# EAGLE library part XC3S700AFG484 (library xilinx_spartan3_virtex4_and_5)
Xilinx FPGA
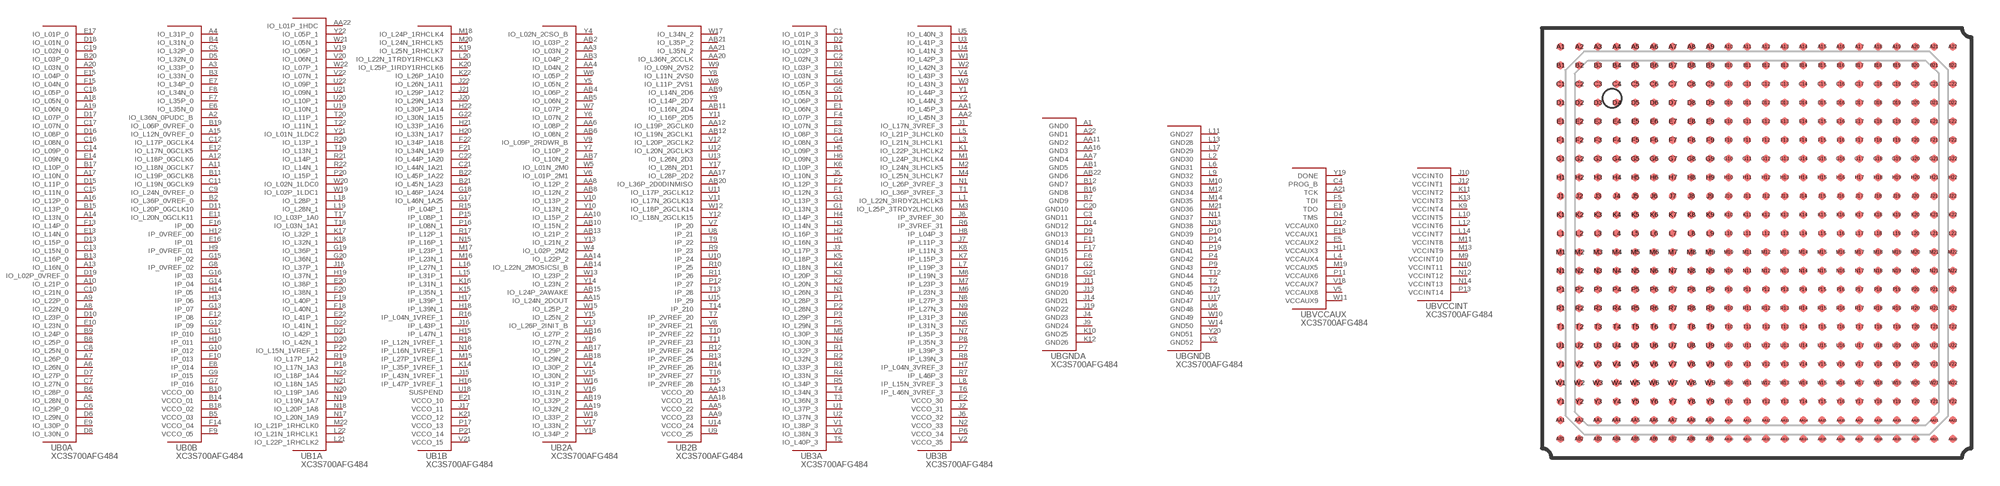
[diagram p36: symbol with the pads of FG484; footprint FG484]

Designator prefix U; gates B0A=XC3S700AFG484_0A B0B=XC3S700AFG484_0B B1A=XC3S700AFG484_1A B1B=XC3S700AFG484_1B B2A=XC3S700AFG484_2A B2B=XC3S700AFG484_2B B3A=XC3S700AFG484_3A B3B=XC3S700AFG484_3B BGNDA=XC3S700AFG484_GNDA BGNDB=XC3S700AFG484_GNDB BVCCAUX=XC3S700AFG484_VCCAUX BVCCINT=XC3S700AFG484_VCCINT

## XC3S700AFG484  [FG484]
A1  BGNDA:GND0  pas
A2  B0B:IO_L36N_0PUDC_B
A3  B0B:IO_L33P_0
A4  B0B:IO_L31P_0
A5  B0A:IO_L28N_0
A6  B0A:IO_L26N_0
A7  B0A:IO_L26P_0
A8  B0A:IO_L22N_0
A9  B0A:IO_L22P_0
A10  B0A:IO_L21P_0
A11  B0B:IO_L18N_0GCLK7
A12  B0B:IO_L18P_0GCLK6
A13  B0A:IO_L16N_0
A14  B0A:IO_L13N_0
A15  B0B:IO_L12N_0VREF_0
A16  B0A:IO_L12P_0
A17  B0A:IO_L10N_0
A18  B0A:IO_L05N_0
A19  B0A:IO_L06N_0
A20  B0A:IO_L03N_0
A21  BVCCAUX:TCK
A22  BGNDA:GND1  pas
AA1  B3B:IO_L45P_3
AA2  B3B:IO_L45N_3
AA3  B2A:IO_L03N_2
AA4  B2A:IO_L04N_2
AA5  B2B:VCCO_22  pas
AA6  B2A:IO_L08P_2
AA7  BGNDA:GND4  pas
AA8  B2A:IO_L12P_2
AA9  B2B:VCCO_23  pas
AA10  B2A:IO_L15P_2
AA11  BGNDA:GND2  pas
AA12  B2B:IO_L19P_2GCLK0
AA13  B2B:VCCO_20  pas
AA14  B2A:IO_L22P_2
AA15  B2A:IO_L24N_2DOUT
AA16  BGNDA:GND3  pas
AA17  B2B:IO_L28P_2D2
AA18  B2B:VCCO_21  pas
AA19  B2A:IO_L32N_2
AA20  B2B:IO_L36N_2CCLK
AA21  B2B:IO_L35N_2
AA22  B1A:IO_L01P_1HDC
AB1  BGNDA:GND5  pas
AB2  B2A:IO_L03P_2
AB3  B2A:IO_L04P_2
AB4  B2A:IO_L06P_2
AB5  B2A:IO_L06N_2
AB6  B2A:IO_L08N_2
AB7  B2A:IO_L10N_2
AB8  B2A:IO_L12N_2
AB9  B2B:IO_L14N_2D6
AB10  B2A:IO_L15N_2
AB11  B2B:IO_L16N_2D4
AB12  B2B:IO_L19N_2GCLK1
AB13  B2A:IO_L21P_2
AB14  B2A:IO_L22N_2MOSICSI_B
AB15  B2A:IO_L24P_2AWAKE
AB16  B2A:IO_L27P_2
AB17  B2A:IO_L29P_2
AB18  B2A:IO_L29N_2
AB19  B2A:IO_L32P_2
AB20  B2B:IO_L36P_2D0DINMISO
AB21  B2B:IO_L35P_2
AB22  BGNDA:GND6  pas
B1  B3A:IO_L02P_3
B2  B0B:IO_L36P_0VREF_0
B3  B0B:IO_L33N_0
B4  B0B:IO_L31N_0
B5  B0B:VCCO_03  pas
B6  B0A:IO_L28P_0
B7  BGNDA:GND9  pas
B8  B0A:IO_L25P_0
B9  B0A:IO_L24P_0
B10  B0B:VCCO_00  pas
B11  B0B:IO_L19P_0GCLK8
B12  BGNDA:GND7  pas
B13  B0A:IO_L16P_0
B14  B0B:VCCO_01  pas
B15  B0A:IO_L13P_0
B16  BGNDA:GND8  pas
B17  B0A:IO_L10P_0
B18  B0B:VCCO_02  pas
B19  B0B:IO_L06P_0VREF_0
B20  B0A:IO_L03P_0
B21  B1B:IO_L45N_1A23
B22  B1B:IO_L45P_1A22
C1  B3A:IO_L01P_3
C2  B3A:IO_L02N_3
C3  BGNDA:GND11  pas
C4  BVCCAUX:PROG_B
C5  B0B:IO_L32P_0
C6  B0A:IO_L29P_0
C7  B0A:IO_L27N_0
C8  B0A:IO_L25N_0
C9  B0B:IO_L24N_0VREF_0
C10  B0A:IO_L21N_0
C11  B0B:IO_L19N_0GCLK9
C12  B0B:IO_L17P_0GCLK4
C13  B0A:IO_L15N_0
C14  B0A:IO_L09P_0
C15  B0A:IO_L11N_0
C16  B0A:IO_L08N_0
C17  B0A:IO_L07N_0
C18  B0A:IO_L05P_0
C19  B0A:IO_L02N_0
C20  BGNDA:GND10  pas
C21  B1B:IO_L44N_1A21
C22  B1B:IO_L44P_1A20
D1  B3A:IO_L06P_3
D2  B3A:IO_L01N_3
D3  B3A:IO_L03P_3
D4  BVCCAUX:TMS
D5  B0B:IO_L32N_0
D6  B0A:IO_L29N_0
D7  B0A:IO_L27P_0
D8  B0A:IO_L30N_0
D9  BGNDA:GND13  pas
D10  B0A:IO_L23P_0
D11  B0B:IO_L20P_0GCLK10
D12  BVCCAUX:VCCAUX0  pas
D13  B0A:IO_L15P_0
D14  BGNDA:GND12  pas
D15  B0A:IO_L11P_0
D16  B0A:IO_L08P_0
D17  B0A:IO_L07P_0
D18  B0A:IO_L01N_0
D19  B0A:IO_L02P_0VREF_0
D20  B1A:IO_L42N_1
D21  B1A:IO_L42P_1
D22  B1A:IO_L41N_1
E1  B3A:IO_L06N_3
E2  B3B:VCCO_30  pas
E3  B3A:IO_L07N_3
E4  B3A:IO_L03N_3
E5  BVCCAUX:VCCAUX2  pas
E6  B0B:IO_L35N_0
E7  B0B:IO_L34P_0
E8  B0B:IP_014
E9  B0A:IO_L30P_0
E10  B0A:IO_L23N_0
E11  B0B:IO_L20N_0GCLK11
E12  B0B:IO_L17N_0GCLK5
E13  B0A:IO_L14N_0
E14  B0A:IO_L09N_0
E15  B0A:IO_L04P_0
E16  B0B:IP_01
E17  B0A:IO_L01P_0
E18  BVCCAUX:VCCAUX1  pas
E19  BVCCAUX:TDO
E20  B1A:IO_L38P_1
E21  B1B:VCCO_10  pas
E22  B1A:IO_L41P_1
F1  B3A:IO_L12N_3
F2  B3A:IO_L12P_3
F3  B3A:IO_L08P_3
F4  B3A:IO_L07P_3
F5  BVCCAUX:TDI
F6  BGNDA:GND16  pas
F7  B0B:IO_L35P_0
F8  B0B:IO_L34N_0
F9  B0B:VCCO_05  pas
F10  B0B:IP_013
F11  BGNDA:GND14  pas
F12  B0B:IP_08
F13  B0A:IO_L14P_0
F14  B0B:VCCO_04  pas
F15  B0A:IO_L04N_0
F16  B0B:IP_00
F17  BGNDA:GND15  pas
F18  B1A:IO_L40N_1
F19  B1A:IO_L40P_1
F20  B1A:IO_L38N_1
F21  B1B:IO_L34N_1A19
F22  B1B:IO_L34P_1A18
G1  B3A:IO_L13N_3
G2  BGNDA:GND17  pas
G3  B3A:IO_L13P_3
G4  B3A:IO_L08N_3
G5  B3A:IO_L05N_3
G6  B3A:IO_L05P_3
G7  B0B:IP_016
G8  B0B:IP_0VREF_02
G9  B0B:IP_015
G10  B0B:IP_012
G11  B0B:IP_010
G12  B0B:IP_09
G13  B0B:IP_07
G14  B0B:IP_04
G15  B0B:IP_02
G16  B0B:IP_03
G17  B1B:IO_L46N_1A25
G18  B1B:IO_L46P_1A24
G19  B1A:IO_L36P_1
G20  B1A:IO_L36N_1
G21  BGNDA:GND18  pas
G22  B1B:IO_L30N_1A15
H1  B3A:IO_L16N_3
H2  B3A:IO_L16P_3
H3  B3A:IO_L14N_3
H4  B3A:IO_L14P_3
H5  B3A:IO_L09P_3
H6  B3A:IO_L09N_3
H7  B3B:IP_L04N_3VREF_3
H8  B3B:IP_L04P_3
H9  B0B:IP_0VREF_01
H10  B0B:IP_011
H11  BVCCAUX:VCCAUX3  pas
H12  B0B:IP_0VREF_00
H13  B0B:IP_06
H14  B0B:IP_05
H15  B1B:IP_L47N_1
H16  B1B:IP_L47P_1VREF_1
H17  B1B:IP_L39P_1
H18  B1B:IP_L39N_1
H19  B1A:IO_L37N_1
H20  B1B:IO_L33N_1A17
H21  B1B:IO_L33P_1A16
H22  B1B:IO_L30P_1A14
J1  B3B:IO_L17N_3VREF_3
J2  B3B:VCCO_31  pas
J3  B3A:IO_L17P_3
J4  BGNDA:GND23  pas
J5  B3A:IO_L10N_3
J6  B3B:VCCO_32  pas
J7  B3B:IP_L11P_3
J8  B3B:IP_3VREF_30
J9  BGNDA:GND24  pas
J10  BVCCINT:VCCINT0  pas
J11  BGNDA:GND19  pas
J12  BVCCINT:VCCINT1  pas
J13  BGNDA:GND20  pas
J14  BGNDA:GND21  pas
J15  B1B:IP_L43N_1VREF_1
J16  B1B:IP_L43P_1
J17  B1B:VCCO_11  pas
J18  B1A:IO_L37P_1
J19  BGNDA:GND22  pas
J20  B1B:IO_L29N_1A13
J21  B1B:IO_L29P_1A12
J22  B1B:IO_L26N_1A11
K1  B3B:IO_L22P_3LHCLK2
K2  B3A:IO_L20N_3
K3  B3A:IO_L20P_3
K4  B3A:IO_L18N_3
K5  B3A:IO_L18P_3
K6  B3A:IO_L10P_3
K7  B3B:IP_L15P_3
K8  B3B:IP_L11N_3
K9  BVCCINT:VCCINT4  pas
K10  BGNDA:GND25  pas
K11  BVCCINT:VCCINT2  pas
K12  BGNDA:GND26  pas
K13  BVCCINT:VCCINT3  pas
K14  B1B:IP_L35P_1VREF_1
K15  B1B:IP_L35N_1
K16  B1B:IP_L31N_1
K17  B1A:IO_L32P_1
K18  B1A:IO_L32N_1
K19  B1B:IO_L25N_1RHCLK7
K20  B1B:IO_L25P_1IRDY1RHCLK6
K21  B1B:VCCO_12  pas
K22  B1B:IO_L26P_1A10
L1  B3B:IO_L22N_3IRDY2LHCLK3
L2  BGNDB:GND30  pas
L3  B3B:IO_L21N_3LHCLK1
L4  BVCCAUX:VCCAUX4  pas
L5  B3B:IO_L21P_3LHCLK0
L6  BGNDB:GND31  pas
L7  B3B:IP_L19P_3
L8  B3B:IP_L15N_3VREF_3
L9  BGNDB:GND32  pas
L10  BVCCINT:VCCINT5  pas
L11  BGNDB:GND27  pas
L12  BVCCINT:VCCINT6  pas
L13  BGNDB:GND28  pas
L14  BVCCINT:VCCINT7  pas
L15  B1B:IP_L31P_1
L16  B1B:IP_L27N_1
L17  BGNDB:GND29  pas
L18  B1A:IO_L28P_1
L19  B1A:IO_L28N_1
L20  B1B:IO_L22N_1TRDY1RHCLK3
L21  B1A:IO_L22P_1RHCLK2
L22  B1A:IO_L21N_1RHCLK1
M1  B3B:IO_L24P_3LHCLK4
M2  B3B:IO_L24N_3LHCLK5
M3  B3B:IO_L25P_3TRDY2LHCLK6
M4  B3B:IO_L25N_3LHCLK7
M5  B3A:IO_L30P_3
M6  B3B:IP_L23N_3
M7  B3B:IP_L23P_3
M8  B3B:IP_L19N_3
M9  BVCCINT:VCCINT10  pas
M10  BGNDB:GND33  pas
M11  BVCCINT:VCCINT8  pas
M12  BGNDB:GND34  pas
M13  BVCCINT:VCCINT9  pas
M14  BGNDB:GND35  pas
M15  B1B:IP_L27P_1VREF_1
M16  B1B:IP_L23N_1
M17  B1B:IP_L23P_1
M18  B1B:IO_L24P_1RHCLK4
M19  BVCCAUX:VCCAUX5  pas
M20  B1B:IO_L24N_1RHCLK5
M21  BGNDB:GND36  pas
M22  B1A:IO_L21P_1RHCLK0
N1  B3B:IO_L26P_3VREF_3
N2  B3B:VCCO_33  pas
N3  B3A:IO_L26N_3
N4  B3A:IO_L30N_3
N5  B3B:IP_L31N_3
N6  B3B:IP_L31P_3
N7  B3B:IP_L35P_3
N8  B3B:IP_L27P_3
N9  B3B:IP_L27N_3
N10  BVCCINT:VCCINT11  pas
N11  BGNDB:GND37  pas
N12  BVCCINT:VCCINT12  pas
N13  BGNDB:GND38  pas
N14  BVCCINT:VCCINT13  pas
N15  B1B:IP_L16P_1
N16  B1B:IP_L16N_1VREF_1
N17  B1A:IO_L20N_1A9
N18  B1A:IO_L20P_1A8
N19  B1A:IO_L19N_1A7
N20  B1A:IO_L19P_1A6
N21  B1A:IO_L18N_1A5
N22  B1A:IO_L18P_1A4
P1  B3A:IO_L28P_3
P2  B3A:IO_L28N_3
P3  B3A:IO_L29P_3
P4  BGNDB:GND42  pas
P5  B3A:IO_L29N_3
P6  B3B:VCCO_34  pas
P7  B3B:IP_L39P_3
P8  B3B:IP_L35N_3
P9  BGNDB:GND43  pas
P10  BGNDB:GND39  pas
P11  BVCCAUX:VCCAUX6  pas
P12  B2B:IP_27
P13  BVCCINT:VCCINT14  pas
P14  BGNDB:GND40  pas
P15  B1B:IP_L08P_1
P16  B1B:IP_L08N_1
P17  B1B:VCCO_13  pas
P18  B1A:IO_L17N_1A3
P19  BGNDB:GND41  pas
P20  B1A:IO_L15P_1
P21  B1B:VCCO_14  pas
P22  B1A:IO_L15N_1VREF_1
R1  B3A:IO_L32P_3
R2  B3A:IO_L32N_3
R3  B3A:IO_L33P_3
R4  B3A:IO_L33N_3
R5  B3A:IO_L34P_3
R6  B3B:IP_3VREF_31
R7  B3B:IP_L46P_3
R8  B3B:IP_L39N_3
R9  B2B:IP_23
R10  B2B:IP_25
R11  B2B:IP_26
R12  B2B:IP_2VREF_24
R13  B2B:IP_2VREF_25
R14  B2B:IP_2VREF_26
R15  B1B:IP_L04P_1
R16  B1B:IP_L04N_1VREF_1
R17  B1B:IP_L12P_1
R18  B1B:IP_L12N_1VREF_1
R19  B1A:IO_L17P_1A2
R20  B1A:IO_L13P_1
R21  B1A:IO_L14P_1
R22  B1A:IO_L14N_1
T1  B3B:IO_L36P_3VREF_3
T2  BGNDB:GND45  pas
T3  B3A:IO_L36N_3
T4  B3A:IO_L34N_3
T5  B3A:IO_L40P_3
T6  B3B:IP_L46N_3VREF_3
T7  B2B:IP_2VREF_20
T9  B2B:IP_22
T10  B2B:IP_2VREF_22
T11  B2B:IP_2VREF_23
T12  BGNDB:GND44  pas
T13  B2B:IP_28
T14  B2B:IP_210
T15  B2B:IP_2VREF_28
T16  B2B:IP_2VREF_27
T17  B1A:IO_L03P_1A0
T18  B1A:IO_L03N_1A1
T19  B1A:IO_L13N_1
T20  B1A:IO_L11P_1
T21  BGNDB:GND46  pas
T22  B1A:IO_L11N_1
U1  B3A:IO_L37P_3
U2  B3A:IO_L37N_3
U3  B3B:IO_L41P_3
U4  B3B:IO_L41N_3
U5  B3B:IO_L40N_3
U6  BGNDB:GND48  pas
U8  B2B:IP_21
U9  B2B:VCCO_25  pas
U10  B2B:IP_24
U11  B2B:IO_L17P_2GCLK12
U12  B2B:IO_L20N_2GCLK3
U13  B2B:IO_L26N_2D3
U14  B2B:VCCO_24  pas
U15  B2B:IP_29
U17  BGNDB:GND47  pas
U18  B1B:SUSPEND
U19  B1A:IO_L10N_1
U20  B1A:IO_L10P_1
U21  B1A:IO_L09N_1
U22  B1A:IO_L09P_1
V1  B3A:IO_L38P_3
V2  B3B:VCCO_35  pas
V3  B3A:IO_L38N_3
V4  B3B:IO_L43P_3
V5  BVCCAUX:VCCAUX8  pas
V6  B2A:IO_L01P_2M1
V7  B2B:IP_20
V8  B2B:IP_2VREF_21
V9  B2A:IO_L09P_2RDWR_B
V10  B2A:IO_L13P_2
V11  B2B:IO_L17N_2GCLK13
V12  B2B:IO_L20P_2GCLK2
V13  B2A:IO_L26P_2INIT_B
V14  B2A:IO_L30P_2
V15  B2A:IO_L30N_2
V16  B2A:IO_L31N_2
V17  B2A:IO_L33N_2
V18  BVCCAUX:VCCAUX7  pas
V19  B1A:IO_L06P_1
V20  B1A:IO_L06N_1
V21  B1B:VCCO_15  pas
V22  B1A:IO_L07N_1
W1  B3B:IO_L42P_3
W2  B3B:IO_L42N_3
W3  B3B:IO_L43N_3
W4  B2A:IO_L02P_2M2
W5  B2A:IO_L01N_2M0
W6  B2A:IO_L05P_2
W7  B2A:IO_L07P_2
W8  B2B:IO_L11P_2VS1
W9  B2B:IO_L09N_2VS2
W10  BGNDB:GND49  pas
W11  BVCCAUX:VCCAUX9  pas
W12  B2B:IO_L18P_2GCLK14
W13  B2A:IO_L23P_2
W14  BGNDB:GND50  pas
W15  B2A:IO_L25P_2
W16  B2A:IO_L31P_2
W17  B2B:IO_L34N_2
W18  B2A:IO_L33P_2
W19  B1A:IO_L02P_1LDC1
W20  B1A:IO_L02N_1LDC0
W21  B1A:IO_L05N_1
W22  B1A:IO_L07P_1
Y1  B3B:IO_L44P_3
Y2  B3B:IO_L44N_3
Y3  BGNDB:GND52  pas
Y4  B2A:IO_L02N_2CSO_B
Y5  B2A:IO_L05N_2
Y6  B2A:IO_L07N_2
Y7  B2A:IO_L10P_2
Y8  B2B:IO_L11N_2VS0
Y9  B2B:IO_L14P_2D7
Y10  B2A:IO_L13N_2
Y11  B2B:IO_L16P_2D5
Y12  B2B:IO_L18N_2GCLK15
Y13  B2A:IO_L21N_2
Y14  B2A:IO_L23N_2
Y15  B2A:IO_L25N_2
Y16  B2A:IO_L27N_2
Y17  B2B:IO_L28N_2D1
Y18  B2A:IO_L34P_2
Y19  BVCCAUX:DONE
Y20  BGNDB:GND51  pas
Y21  B1A:IO_L01N_1LDC2
Y22  B1A:IO_L05P_1

## Footprint FG484 (pad centres in mm)
smd 0.4 x 0.4: A1 -10.5,10.5; A2 -9.5,10.5; A3 -8.5,10.5; A4 -7.5,10.5; A5 -6.5,10.5; A6 -5.5,10.5; A7 -4.5,10.5; A8 -3.5,10.5; A9 -2.5,10.5; A10 -1.5,10.5; A11 -0.5,10.5; A12 0.5,10.5; A13 1.5,10.5; A14 2.5,10.5; A15 3.5,10.5; A16 4.5,10.5; A17 5.5,10.5; A18 6.5,10.5; A19 7.5,10.5; A20 8.5,10.5; A21 9.5,10.5; A22 10.5,10.5; AA1 -10.5,-9.5; AA2 -9.5,-9.5; AA3 -8.5,-9.5; AA4 -7.5,-9.5; AA5 -6.5,-9.5; AA6 -5.5,-9.5; AA7 -4.5,-9.5; AA8 -3.5,-9.5; AA9 -2.5,-9.5; AA10 -1.5,-9.5; AA11 -0.5,-9.5; AA12 0.5,-9.5; AA13 1.5,-9.5; AA14 2.5,-9.5; AA15 3.5,-9.5; AA16 4.5,-9.5; AA17 5.5,-9.5; AA18 6.5,-9.5; AA19 7.5,-9.5; AA20 8.5,-9.5; AA21 9.5,-9.5; AA22 10.5,-9.5; AB1 -10.5,-10.5; AB2 -9.5,-10.5; AB3 -8.5,-10.5; AB4 -7.5,-10.5; AB5 -6.5,-10.5; AB6 -5.5,-10.5; AB7 -4.5,-10.5; AB8 -3.5,-10.5; AB9 -2.5,-10.5; AB10 -1.5,-10.5; AB11 -0.5,-10.5; AB12 0.5,-10.5; AB13 1.5,-10.5; AB14 2.5,-10.5; AB15 3.5,-10.5; AB16 4.5,-10.5; AB17 5.5,-10.5; AB18 6.5,-10.5; AB19 7.5,-10.5; AB20 8.5,-10.5; AB21 9.5,-10.5; AB22 10.5,-10.5; B1 -10.5,9.5; B2 -9.5,9.5; B3 -8.5,9.5; B4 -7.5,9.5; B5 -6.5,9.5; B6 -5.5,9.5; B7 -4.5,9.5; B8 -3.5,9.5; B9 -2.5,9.5; B10 -1.5,9.5; B11 -0.5,9.5; B12 0.5,9.5; B13 1.5,9.5; B14 2.5,9.5; B15 3.5,9.5; B16 4.5,9.5; B17 5.5,9.5; B18 6.5,9.5; B19 7.5,9.5; B20 8.5,9.5; B21 9.5,9.5; B22 10.5,9.5; C1 -10.5,8.5; C2 -9.5,8.5; C3 -8.5,8.5; C4 -7.5,8.5; C5 -6.5,8.5; C6 -5.5,8.5; C7 -4.5,8.5; C8 -3.5,8.5; C9 -2.5,8.5; C10 -1.5,8.5; C11 -0.5,8.5; C12 0.5,8.5; C13 1.5,8.5; C14 2.5,8.5; C15 3.5,8.5; C16 4.5,8.5; C17 5.5,8.5; C18 6.5,8.5; C19 7.5,8.5; C20 8.5,8.5; C21 9.5,8.5; C22 10.5,8.5; D1 -10.5,7.5; D2 -9.5,7.5; D3 -8.5,7.5; D4 -7.5,7.5; D5 -6.5,7.5; D6 -5.5,7.5; D7 -4.5,7.5; D8 -3.5,7.5; D9 -2.5,7.5; D10 -1.5,7.5; D11 -0.5,7.5; D12 0.5,7.5; D13 1.5,7.5; D14 2.5,7.5; D15 3.5,7.5; D16 4.5,7.5; D17 5.5,7.5; D18 6.5,7.5; D19 7.5,7.5; D20 8.5,7.5; D21 9.5,7.5; D22 10.5,7.5; E1 -10.5,6.5; E2 -9.5,6.5; E3 -8.5,6.5; E4 -7.5,6.5; E5 -6.5,6.5; E6 -5.5,6.5; E7 -4.5,6.5; E8 -3.5,6.5; E9 -2.5,6.5; E10 -1.5,6.5; E11 -0.5,6.5; E12 0.5,6.5; E13 1.5,6.5; E14 2.5,6.5; E15 3.5,6.5; E16 4.5,6.5; E17 5.5,6.5; E18 6.5,6.5; E19 7.5,6.5; E20 8.5,6.5; E21 9.5,6.5; E22 10.5,6.5; F1 -10.5,5.5; F2 -9.5,5.5; F3 -8.5,5.5; F4 -7.5,5.5; F5 -6.5,5.5; F6 -5.5,5.5; F7 -4.5,5.5; F8 -3.5,5.5; F9 -2.5,5.5; F10 -1.5,5.5; F11 -0.5,5.5; F12 0.5,5.5; F13 1.5,5.5; F14 2.5,5.5; F15 3.5,5.5; F16 4.5,5.5; F17 5.5,5.5; F18 6.5,5.5; F19 7.5,5.5; F20 8.5,5.5; F21 9.5,5.5; F22 10.5,5.5; G1 -10.5,4.5; G2 -9.5,4.5; G3 -8.5,4.5; G4 -7.5,4.5; G5 -6.5,4.5; G6 -5.5,4.5; G7 -4.5,4.5; G8 -3.5,4.5; G9 -2.5,4.5; G10 -1.5,4.5; G11 -0.5,4.5; G12 0.5,4.5; G13 1.5,4.5; G14 2.5,4.5; G15 3.5,4.5; G16 4.5,4.5; G17 5.5,4.5; G18 6.5,4.5; G19 7.5,4.5; G20 8.5,4.5; G21 9.5,4.5; G22 10.5,4.5; H1 -10.5,3.5; H2 -9.5,3.5; H3 -8.5,3.5; H4 -7.5,3.5; H5 -6.5,3.5; H6 -5.5,3.5; H7 -4.5,3.5; H8 -3.5,3.5; H9 -2.5,3.5; H10 -1.5,3.5; H11 -0.5,3.5; H12 0.5,3.5; H13 1.5,3.5; H14 2.5,3.5; H15 3.5,3.5; H16 4.5,3.5; H17 5.5,3.5; H18 6.5,3.5; H19 7.5,3.5; H20 8.5,3.5; H21 9.5,3.5; H22 10.5,3.5; J1 -10.5,2.5; J2 -9.5,2.5; J3 -8.5,2.5; J4 -7.5,2.5; J5 -6.5,2.5; J6 -5.5,2.5; J7 -4.5,2.5; J8 -3.5,2.5; J9 -2.5,2.5; J10 -1.5,2.5; J11 -0.5,2.5; J12 0.5,2.5; J13 1.5,2.5; J14 2.5,2.5; J15 3.5,2.5; J16 4.5,2.5; J17 5.5,2.5; J18 6.5,2.5; J19 7.5,2.5; J20 8.5,2.5; J21 9.5,2.5; J22 10.5,2.5; K1 -10.5,1.5; K2 -9.5,1.5; K3 -8.5,1.5; K4 -7.5,1.5; K5 -6.5,1.5; K6 -5.5,1.5; K7 -4.5,1.5; K8 -3.5,1.5; K9 -2.5,1.5; K10 -1.5,1.5; K11 -0.5,1.5; K12 0.5,1.5; K13 1.5,1.5; K14 2.5,1.5; K15 3.5,1.5; K16 4.5,1.5; K17 5.5,1.5; K18 6.5,1.5; K19 7.5,1.5; K20 8.5,1.5; K21 9.5,1.5; K22 10.5,1.5; L1 -10.5,0.5; L2 -9.5,0.5; L3 -8.5,0.5; L4 -7.5,0.5; L5 -6.5,0.5; L6 -5.5,0.5; L7 -4.5,0.5; L8 -3.5,0.5; L9 -2.5,0.5; L10 -1.5,0.5; L11 -0.5,0.5; L12 0.5,0.5; L13 1.5,0.5; L14 2.5,0.5; L15 3.5,0.5; L16 4.5,0.5; L17 5.5,0.5; L18 6.5,0.5; L19 7.5,0.5; L20 8.5,0.5; L21 9.5,0.5; L22 10.5,0.5; M1 -10.5,-0.5; M2 -9.5,-0.5; M3 -8.5,-0.5; M4 -7.5,-0.5; M5 -6.5,-0.5; M6 -5.5,-0.5; M7 -4.5,-0.5; M8 -3.5,-0.5; M9 -2.5,-0.5; M10 -1.5,-0.5; M11 -0.5,-0.5; M12 0.5,-0.5; M13 1.5,-0.5; M14 2.5,-0.5; M15 3.5,-0.5; M16 4.5,-0.5; M17 5.5,-0.5; M18 6.5,-0.5; M19 7.5,-0.5; M20 8.5,-0.5; M21 9.5,-0.5; M22 10.5,-0.5; N1 -10.5,-1.5; N2 -9.5,-1.5; N3 -8.5,-1.5; N4 -7.5,-1.5; N5 -6.5,-1.5; N6 -5.5,-1.5; N7 -4.5,-1.5; N8 -3.5,-1.5; N9 -2.5,-1.5; N10 -1.5,-1.5; N11 -0.5,-1.5; N12 0.5,-1.5; N13 1.5,-1.5; N14 2.5,-1.5; N15 3.5,-1.5; N16 4.5,-1.5; N17 5.5,-1.5; N18 6.5,-1.5; N19 7.5,-1.5; N20 8.5,-1.5; N21 9.5,-1.5; N22 10.5,-1.5; P1 -10.5,-2.5; P2 -9.5,-2.5; P3 -8.5,-2.5; P4 -7.5,-2.5; P5 -6.5,-2.5; P6 -5.5,-2.5; P7 -4.5,-2.5; P8 -3.5,-2.5; P9 -2.5,-2.5; P10 -1.5,-2.5; P11 -0.5,-2.5; P12 0.5,-2.5; P13 1.5,-2.5; P14 2.5,-2.5; P15 3.5,-2.5; P16 4.5,-2.5; P17 5.5,-2.5; P18 6.5,-2.5; P19 7.5,-2.5; P20 8.5,-2.5; P21 9.5,-2.5; P22 10.5,-2.5; R1 -10.5,-3.5; R2 -9.5,-3.5; R3 -8.5,-3.5; R4 -7.5,-3.5; R5 -6.5,-3.5; R6 -5.5,-3.5; R7 -4.5,-3.5; R8 -3.5,-3.5; R9 -2.5,-3.5; R10 -1.5,-3.5; R11 -0.5,-3.5; R12 0.5,-3.5; R13 1.5,-3.5; R14 2.5,-3.5; R15 3.5,-3.5; R16 4.5,-3.5; R17 5.5,-3.5; R18 6.5,-3.5; R19 7.5,-3.5; R20 8.5,-3.5; R21 9.5,-3.5; R22 10.5,-3.5; T1 -10.5,-4.5; T2 -9.5,-4.5; T3 -8.5,-4.5; T4 -7.5,-4.5; T5 -6.5,-4.5; T6 -5.5,-4.5; T7 -4.5,-4.5; T8 -3.5,-4.5; T9 -2.5,-4.5; T10 -1.5,-4.5; T11 -0.5,-4.5; T12 0.5,-4.5; T13 1.5,-4.5; T14 2.5,-4.5; T15 3.5,-4.5; T16 4.5,-4.5; T17 5.5,-4.5; T18 6.5,-4.5; T19 7.5,-4.5; T20 8.5,-4.5; T21 9.5,-4.5; T22 10.5,-4.5; U1 -10.5,-5.5; U2 -9.5,-5.5; U3 -8.5,-5.5; U4 -7.5,-5.5; U5 -6.5,-5.5; U6 -5.5,-5.5; U7 -4.5,-5.5; U8 -3.5,-5.5; U9 -2.5,-5.5; U10 -1.5,-5.5; U11 -0.5,-5.5; U12 0.5,-5.5; U13 1.5,-5.5; U14 2.5,-5.5; U15 3.5,-5.5; U16 4.5,-5.5; U17 5.5,-5.5; U18 6.5,-5.5; U19 7.5,-5.5; U20 8.5,-5.5; U21 9.5,-5.5; U22 10.5,-5.5; V1 -10.5,-6.5; V2 -9.5,-6.5; V3 -8.5,-6.5; V4 -7.5,-6.5; V5 -6.5,-6.5; V6 -5.5,-6.5; V7 -4.5,-6.5; V8 -3.5,-6.5; V9 -2.5,-6.5; V10 -1.5,-6.5; V11 -0.5,-6.5; V12 0.5,-6.5; V13 1.5,-6.5; V14 2.5,-6.5; V15 3.5,-6.5; V16 4.5,-6.5; V17 5.5,-6.5; V18 6.5,-6.5; V19 7.5,-6.5; V20 8.5,-6.5; V21 9.5,-6.5; V22 10.5,-6.5; W1 -10.5,-7.5; W2 -9.5,-7.5; W3 -8.5,-7.5; W4 -7.5,-7.5; W5 -6.5,-7.5; W6 -5.5,-7.5; W7 -4.5,-7.5; W8 -3.5,-7.5; W9 -2.5,-7.5; W10 -1.5,-7.5; W11 -0.5,-7.5; W12 0.5,-7.5; W13 1.5,-7.5; W14 2.5,-7.5; W15 3.5,-7.5; W16 4.5,-7.5; W17 5.5,-7.5; W18 6.5,-7.5; W19 7.5,-7.5; W20 8.5,-7.5; W21 9.5,-7.5; W22 10.5,-7.5; Y1 -10.5,-8.5; Y2 -9.5,-8.5; Y3 -8.5,-8.5; Y4 -7.5,-8.5; Y5 -6.5,-8.5; Y6 -5.5,-8.5; Y7 -4.5,-8.5; Y8 -3.5,-8.5; Y9 -2.5,-8.5; Y10 -1.5,-8.5; Y11 -0.5,-8.5; Y12 0.5,-8.5; Y13 1.5,-8.5; Y14 2.5,-8.5; Y15 3.5,-8.5; Y16 4.5,-8.5; Y17 5.5,-8.5; Y18 6.5,-8.5; Y19 7.5,-8.5; Y20 8.5,-8.5; Y21 9.5,-8.5; Y22 10.5,-8.5